# EAGLE library part ATTINY85 (library ElcPartsLibrary)
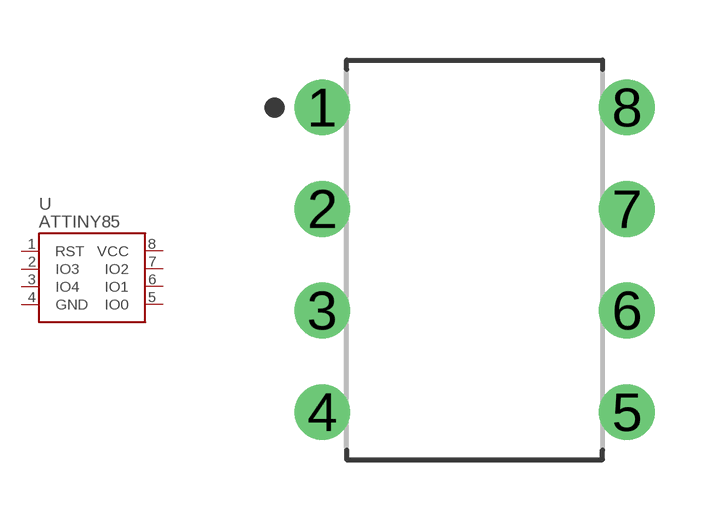
[diagram p7: symbol with the pads of DIP762W53P254L950H370Q8B; footprint DIP762W53P254L950H370Q8B]

Designator prefix -

## ATTINY85  [DIP762W53P254L950H370Q8B]
1  RST
2  IO3
3  IO4
4  GND
5  IO0
6  IO1
7  IO2
8  VCC

## Footprint DIP762W53P254L950H370Q8B (pad centres in mm)
8-DIP, 2.54 mm (0.10 in) pitch, 7.62 mm (0.30 in) span, 9.50 X 6.30 X 3.70 mm body 8-pin DIP package with 2.54 mm (0.10 in) pitch, 7.62 mm (0.30 in) span with body size 9.50 X 6.30 X 3.70 mm
drill 0.79 pad 1.39: 1 -3.81,3.81; 2 -3.81,1.27; 3 -3.81,-1.27; 4 -3.81,-3.81; 5 3.81,-3.81; 6 3.81,-1.27; 7 3.81,1.27; 8 3.81,3.81